# Altium schematic symbol library con-molex-mini-fit.SCHLIB: 168 symbols (part 3 of 4)
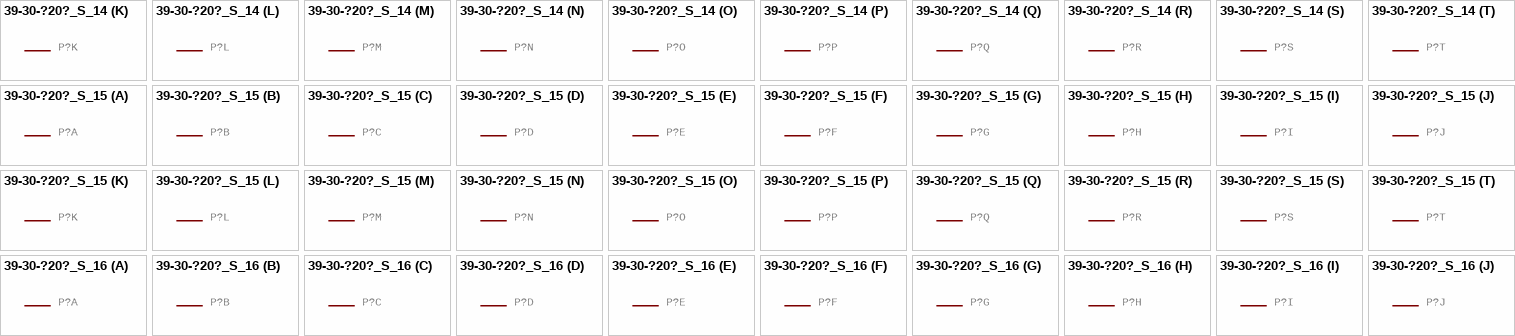
[diagram p67: symbols 39-30-?20?_S_14 to 39-30-?20?_S_16]

## 39-30-?20?_S_14
designator P?, comment HEADER  (value not drawn)
GateName_1: -1; SymbolName_1: P-NV; GateName_2: -2; SymbolName_2: P-N; GateName_3: -3; GateName_4: -4; GateName_5: -5; GateName_6: -6; GateName_7: -7; GateName_8: -8; GateName_9: -9; GateName_10: -10; GateName_11: -11; GateName_12: -12; GateName_13: -13; GateName_14: -14; GateName_15: -15; GateName_16: -16; GateName_17: -17; GateName_18: -18; GateName_19: -19; GateName_20: -20; DeviceSetName: 39-30-?20?_S; SymbolName_3: P-N; SymbolName_4: P-N; SymbolName_5: P-N; SymbolName_6: P-N; SymbolName_7: P-N; SymbolName_8: P-N; SymbolName_9: P-N; SymbolName_10: P-N; SymbolName_11: P-N; SymbolName_12: P-N; SymbolName_13: P-N; SymbolName_14: P-N; SymbolName_15: P-N; SymbolName_16: P-N; SymbolName_17: P-N; SymbolName_18: P-N; SymbolName_19: P-N; SymbolName_20: P-N; LibraryName: con-molex-mini-fit; Package: 39-30-?20?
footprint 39-30-?20?
part A pins: 1 P
part B pins: 2 P
part C pins: 3 P
part D pins: 4 P
part E pins: 5 P
part F pins: 6 P
part G pins: 7 P
part H pins: 8 P
part I pins: 9 P
part J pins: 10 P
part K pins: 11 P
part L pins: 12 P
part M pins: 13 P
part N pins: 14 P
part O pins: 15 P
part P pins: 16 P
part Q pins: 17 P
part R pins: 18 P
part S pins: 19 P
part T pins: 20 P

## 39-30-?20?_S_15
designator P?, comment HEADER  (value not drawn)
GateName_1: -1; SymbolName_1: P-NV; GateName_2: -2; SymbolName_2: P-N; GateName_3: -3; GateName_4: -4; GateName_5: -5; GateName_6: -6; GateName_7: -7; GateName_8: -8; GateName_9: -9; GateName_10: -10; GateName_11: -11; GateName_12: -12; GateName_13: -13; GateName_14: -14; GateName_15: -15; GateName_16: -16; GateName_17: -17; GateName_18: -18; GateName_19: -19; GateName_20: -20; DeviceSetName: 39-30-?20?_S; SymbolName_3: P-N; SymbolName_4: P-N; SymbolName_5: P-N; SymbolName_6: P-N; SymbolName_7: P-N; SymbolName_8: P-N; SymbolName_9: P-N; SymbolName_10: P-N; SymbolName_11: P-N; SymbolName_12: P-N; SymbolName_13: P-N; SymbolName_14: P-N; SymbolName_15: P-N; SymbolName_16: P-N; SymbolName_17: P-N; SymbolName_18: P-N; SymbolName_19: P-N; SymbolName_20: P-N; LibraryName: con-molex-mini-fit; Package: 39-30-?20?
footprint 39-30-?20?
part A pins: 1 P
part B pins: 2 P
part C pins: 3 P
part D pins: 4 P
part E pins: 5 P
part F pins: 6 P
part G pins: 7 P
part H pins: 8 P
part I pins: 9 P
part J pins: 10 P
part K pins: 11 P
part L pins: 12 P
part M pins: 13 P
part N pins: 14 P
part O pins: 15 P
part P pins: 16 P
part Q pins: 17 P
part R pins: 18 P
part S pins: 19 P
part T pins: 20 P

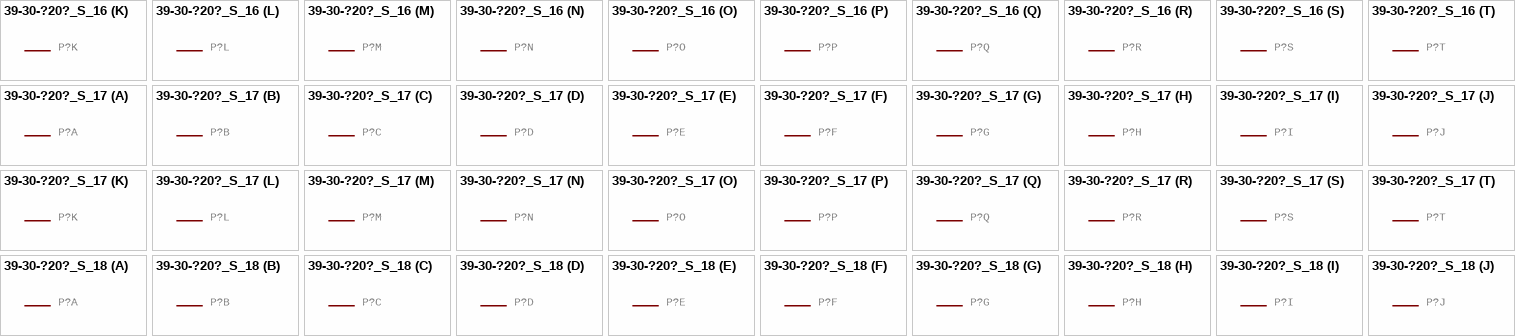
[diagram p37: symbols 39-30-?20?_S_16 to 39-30-?20?_S_18]

## 39-30-?20?_S_16
designator P?, comment HEADER  (value not drawn)
GateName_1: -1; SymbolName_1: P-NV; GateName_2: -2; SymbolName_2: P-N; GateName_3: -3; GateName_4: -4; GateName_5: -5; GateName_6: -6; GateName_7: -7; GateName_8: -8; GateName_9: -9; GateName_10: -10; GateName_11: -11; GateName_12: -12; GateName_13: -13; GateName_14: -14; GateName_15: -15; GateName_16: -16; GateName_17: -17; GateName_18: -18; GateName_19: -19; GateName_20: -20; DeviceSetName: 39-30-?20?_S; SymbolName_3: P-N; SymbolName_4: P-N; SymbolName_5: P-N; SymbolName_6: P-N; SymbolName_7: P-N; SymbolName_8: P-N; SymbolName_9: P-N; SymbolName_10: P-N; SymbolName_11: P-N; SymbolName_12: P-N; SymbolName_13: P-N; SymbolName_14: P-N; SymbolName_15: P-N; SymbolName_16: P-N; SymbolName_17: P-N; SymbolName_18: P-N; SymbolName_19: P-N; SymbolName_20: P-N; LibraryName: con-molex-mini-fit; Package: 39-30-?20?
footprint 39-30-?20?
part A pins: 1 P
part B pins: 2 P
part C pins: 3 P
part D pins: 4 P
part E pins: 5 P
part F pins: 6 P
part G pins: 7 P
part H pins: 8 P
part I pins: 9 P
part J pins: 10 P
part K pins: 11 P
part L pins: 12 P
part M pins: 13 P
part N pins: 14 P
part O pins: 15 P
part P pins: 16 P
part Q pins: 17 P
part R pins: 18 P
part S pins: 19 P
part T pins: 20 P

## 39-30-?20?_S_17
designator P?, comment HEADER  (value not drawn)
GateName_1: -1; SymbolName_1: P-NV; GateName_2: -2; SymbolName_2: P-N; GateName_3: -3; GateName_4: -4; GateName_5: -5; GateName_6: -6; GateName_7: -7; GateName_8: -8; GateName_9: -9; GateName_10: -10; GateName_11: -11; GateName_12: -12; GateName_13: -13; GateName_14: -14; GateName_15: -15; GateName_16: -16; GateName_17: -17; GateName_18: -18; GateName_19: -19; GateName_20: -20; DeviceSetName: 39-30-?20?_S; SymbolName_3: P-N; SymbolName_4: P-N; SymbolName_5: P-N; SymbolName_6: P-N; SymbolName_7: P-N; SymbolName_8: P-N; SymbolName_9: P-N; SymbolName_10: P-N; SymbolName_11: P-N; SymbolName_12: P-N; SymbolName_13: P-N; SymbolName_14: P-N; SymbolName_15: P-N; SymbolName_16: P-N; SymbolName_17: P-N; SymbolName_18: P-N; SymbolName_19: P-N; SymbolName_20: P-N; LibraryName: con-molex-mini-fit; Package: 39-30-?20?
footprint 39-30-?20?
part A pins: 1 P
part B pins: 2 P
part C pins: 3 P
part D pins: 4 P
part E pins: 5 P
part F pins: 6 P
part G pins: 7 P
part H pins: 8 P
part I pins: 9 P
part J pins: 10 P
part K pins: 11 P
part L pins: 12 P
part M pins: 13 P
part N pins: 14 P
part O pins: 15 P
part P pins: 16 P
part Q pins: 17 P
part R pins: 18 P
part S pins: 19 P
part T pins: 20 P

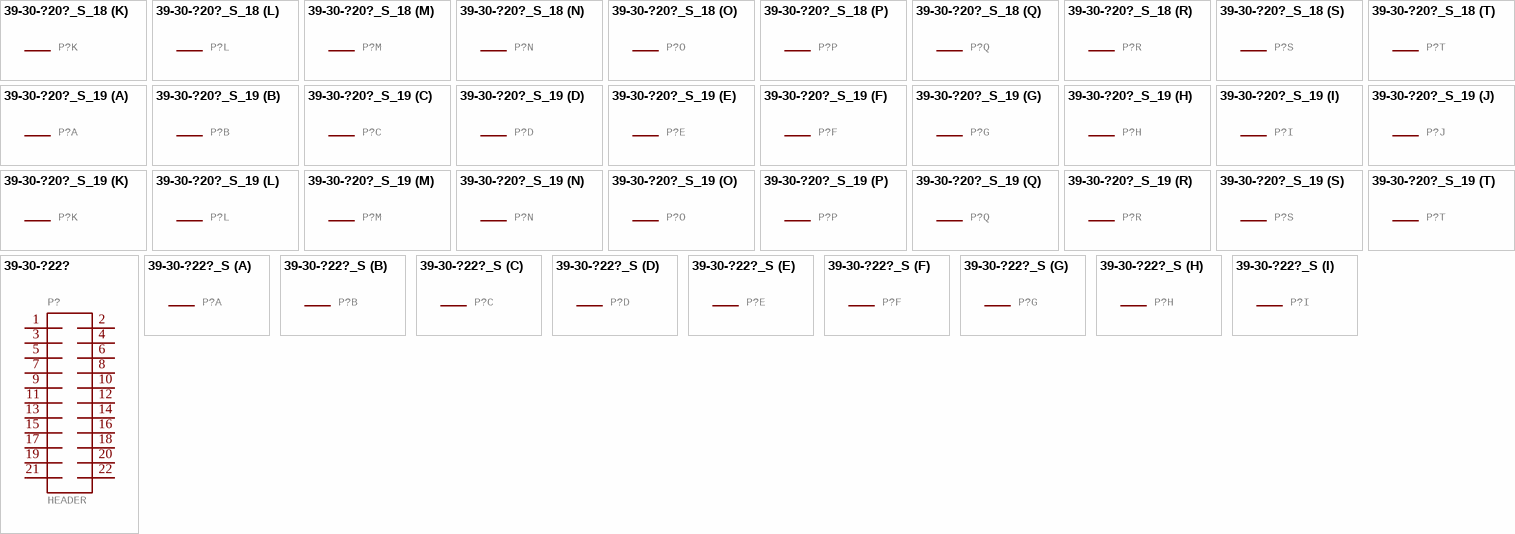
[diagram p38: symbols 39-30-?20?_S_18 to 39-30-?22?_S]

## 39-30-?20?_S_18
designator P?, comment HEADER  (value not drawn)
GateName_1: -1; SymbolName_1: P-NV; GateName_2: -2; SymbolName_2: P-N; GateName_3: -3; GateName_4: -4; GateName_5: -5; GateName_6: -6; GateName_7: -7; GateName_8: -8; GateName_9: -9; GateName_10: -10; GateName_11: -11; GateName_12: -12; GateName_13: -13; GateName_14: -14; GateName_15: -15; GateName_16: -16; GateName_17: -17; GateName_18: -18; GateName_19: -19; GateName_20: -20; DeviceSetName: 39-30-?20?_S; SymbolName_3: P-N; SymbolName_4: P-N; SymbolName_5: P-N; SymbolName_6: P-N; SymbolName_7: P-N; SymbolName_8: P-N; SymbolName_9: P-N; SymbolName_10: P-N; SymbolName_11: P-N; SymbolName_12: P-N; SymbolName_13: P-N; SymbolName_14: P-N; SymbolName_15: P-N; SymbolName_16: P-N; SymbolName_17: P-N; SymbolName_18: P-N; SymbolName_19: P-N; SymbolName_20: P-N; LibraryName: con-molex-mini-fit; Package: 39-30-?20?
footprint 39-30-?20?
part A pins: 1 P
part B pins: 2 P
part C pins: 3 P
part D pins: 4 P
part E pins: 5 P
part F pins: 6 P
part G pins: 7 P
part H pins: 8 P
part I pins: 9 P
part J pins: 10 P
part K pins: 11 P
part L pins: 12 P
part M pins: 13 P
part N pins: 14 P
part O pins: 15 P
part P pins: 16 P
part Q pins: 17 P
part R pins: 18 P
part S pins: 19 P
part T pins: 20 P

## 39-30-?20?_S_19
designator P?, comment HEADER  (value not drawn)
GateName_1: -1; SymbolName_1: P-NV; GateName_2: -2; SymbolName_2: P-N; GateName_3: -3; GateName_4: -4; GateName_5: -5; GateName_6: -6; GateName_7: -7; GateName_8: -8; GateName_9: -9; GateName_10: -10; GateName_11: -11; GateName_12: -12; GateName_13: -13; GateName_14: -14; GateName_15: -15; GateName_16: -16; GateName_17: -17; GateName_18: -18; GateName_19: -19; GateName_20: -20; DeviceSetName: 39-30-?20?_S; SymbolName_3: P-N; SymbolName_4: P-N; SymbolName_5: P-N; SymbolName_6: P-N; SymbolName_7: P-N; SymbolName_8: P-N; SymbolName_9: P-N; SymbolName_10: P-N; SymbolName_11: P-N; SymbolName_12: P-N; SymbolName_13: P-N; SymbolName_14: P-N; SymbolName_15: P-N; SymbolName_16: P-N; SymbolName_17: P-N; SymbolName_18: P-N; SymbolName_19: P-N; SymbolName_20: P-N; LibraryName: con-molex-mini-fit; Package: 39-30-?20?
footprint 39-30-?20?
part A pins: 1 P
part B pins: 2 P
part C pins: 3 P
part D pins: 4 P
part E pins: 5 P
part F pins: 6 P
part G pins: 7 P
part H pins: 8 P
part I pins: 9 P
part J pins: 10 P
part K pins: 11 P
part L pins: 12 P
part M pins: 13 P
part N pins: 14 P
part O pins: 15 P
part P pins: 16 P
part Q pins: 17 P
part R pins: 18 P
part S pins: 19 P
part T pins: 20 P

## 39-30-?22?
designator P?, comment HEADER
GateName_1: G$1; SymbolName_1: MA11-2; DeviceSetName: 39-30-?22?; LibraryName: con-molex-mini-fit; Package: 39-30-?22?
footprint 39-30-?22?
pins: 1, 2, 3, 4, 5, 6, 7, 8, 9, 10, 11, 12, 13, 14, 15, 16, 17, 18, 19, 20, 21, 22

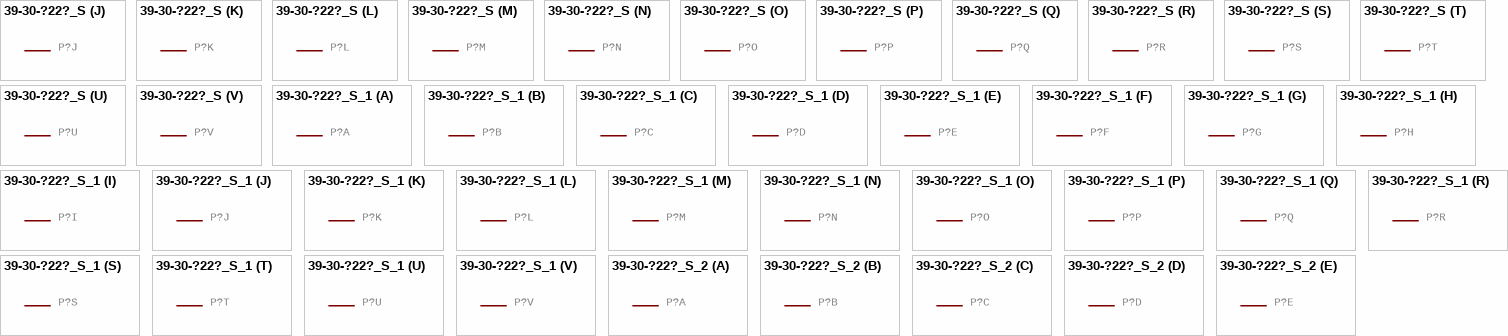
[diagram p39: symbols 39-30-?22?_S to 39-30-?22?_S_2]

## 39-30-?22?_S
designator P?, comment HEADER  (value not drawn)
GateName_1: -1; SymbolName_1: P-NV; GateName_2: -2; SymbolName_2: P-N; GateName_3: -3; GateName_4: -4; GateName_5: -5; GateName_6: -6; GateName_7: -7; GateName_8: -8; GateName_9: -9; GateName_10: -10; GateName_11: -11; GateName_12: -12; GateName_13: -13; GateName_14: -14; GateName_15: -15; GateName_16: -16; GateName_17: -17; GateName_18: -18; GateName_19: -19; GateName_20: -20; GateName_21: -21; GateName_22: -22; DeviceSetName: 39-30-?22?_S; SymbolName_3: P-N; SymbolName_4: P-N; SymbolName_5: P-N; SymbolName_6: P-N; SymbolName_7: P-N; SymbolName_8: P-N; SymbolName_9: P-N; SymbolName_10: P-N; SymbolName_11: P-N; SymbolName_12: P-N; SymbolName_13: P-N; SymbolName_14: P-N; SymbolName_15: P-N; SymbolName_16: P-N; SymbolName_17: P-N; SymbolName_18: P-N; SymbolName_19: P-N; SymbolName_20: P-N; SymbolName_21: P-N; SymbolName_22: P-N; LibraryName: con-molex-mini-fit; Package: 39-30-?22?
footprint 39-30-?22?
part A pins: 1 P
part B pins: 2 P
part C pins: 3 P
part D pins: 4 P
part E pins: 5 P
part F pins: 6 P
part G pins: 7 P
part H pins: 8 P
part I pins: 9 P
part J pins: 10 P
part K pins: 11 P
part L pins: 12 P
part M pins: 13 P
part N pins: 14 P
part O pins: 15 P
part P pins: 16 P
part Q pins: 17 P
part R pins: 18 P
part S pins: 19 P
part T pins: 20 P
part U pins: 21 P
part V pins: 22 P

## 39-30-?22?_S_1
designator P?, comment HEADER  (value not drawn)
GateName_1: -1; SymbolName_1: P-NV; GateName_2: -2; SymbolName_2: P-N; GateName_3: -3; GateName_4: -4; GateName_5: -5; GateName_6: -6; GateName_7: -7; GateName_8: -8; GateName_9: -9; GateName_10: -10; GateName_11: -11; GateName_12: -12; GateName_13: -13; GateName_14: -14; GateName_15: -15; GateName_16: -16; GateName_17: -17; GateName_18: -18; GateName_19: -19; GateName_20: -20; GateName_21: -21; GateName_22: -22; DeviceSetName: 39-30-?22?_S; SymbolName_3: P-N; SymbolName_4: P-N; SymbolName_5: P-N; SymbolName_6: P-N; SymbolName_7: P-N; SymbolName_8: P-N; SymbolName_9: P-N; SymbolName_10: P-N; SymbolName_11: P-N; SymbolName_12: P-N; SymbolName_13: P-N; SymbolName_14: P-N; SymbolName_15: P-N; SymbolName_16: P-N; SymbolName_17: P-N; SymbolName_18: P-N; SymbolName_19: P-N; SymbolName_20: P-N; SymbolName_21: P-N; SymbolName_22: P-N; LibraryName: con-molex-mini-fit; Package: 39-30-?22?
footprint 39-30-?22?
part A pins: 1 P
part B pins: 2 P
part C pins: 3 P
part D pins: 4 P
part E pins: 5 P
part F pins: 6 P
part G pins: 7 P
part H pins: 8 P
part I pins: 9 P
part J pins: 10 P
part K pins: 11 P
part L pins: 12 P
part M pins: 13 P
part N pins: 14 P
part O pins: 15 P
part P pins: 16 P
part Q pins: 17 P
part R pins: 18 P
part S pins: 19 P
part T pins: 20 P
part U pins: 21 P
part V pins: 22 P

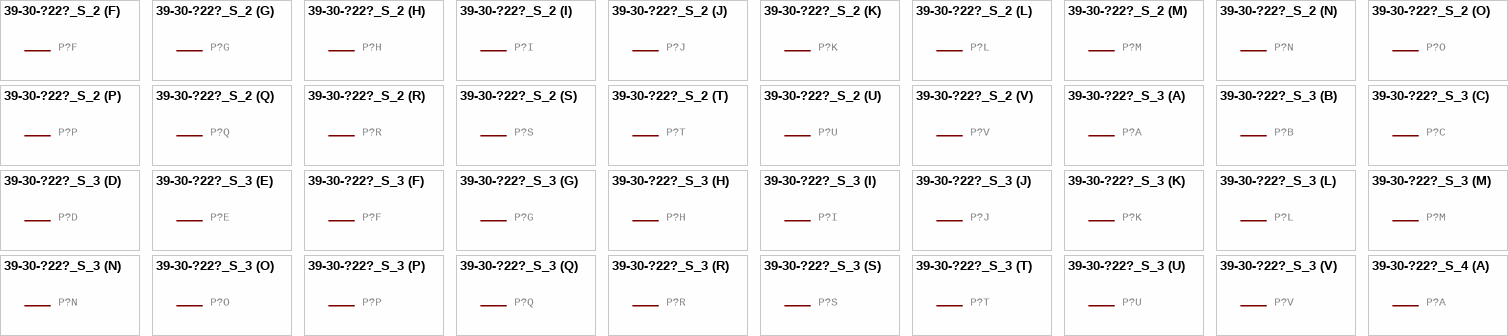
[diagram p40: symbols 39-30-?22?_S_2 to 39-30-?22?_S_4]

## 39-30-?22?_S_2
designator P?, comment HEADER  (value not drawn)
GateName_1: -1; SymbolName_1: P-NV; GateName_2: -2; SymbolName_2: P-N; GateName_3: -3; GateName_4: -4; GateName_5: -5; GateName_6: -6; GateName_7: -7; GateName_8: -8; GateName_9: -9; GateName_10: -10; GateName_11: -11; GateName_12: -12; GateName_13: -13; GateName_14: -14; GateName_15: -15; GateName_16: -16; GateName_17: -17; GateName_18: -18; GateName_19: -19; GateName_20: -20; GateName_21: -21; GateName_22: -22; DeviceSetName: 39-30-?22?_S; SymbolName_3: P-N; SymbolName_4: P-N; SymbolName_5: P-N; SymbolName_6: P-N; SymbolName_7: P-N; SymbolName_8: P-N; SymbolName_9: P-N; SymbolName_10: P-N; SymbolName_11: P-N; SymbolName_12: P-N; SymbolName_13: P-N; SymbolName_14: P-N; SymbolName_15: P-N; SymbolName_16: P-N; SymbolName_17: P-N; SymbolName_18: P-N; SymbolName_19: P-N; SymbolName_20: P-N; SymbolName_21: P-N; SymbolName_22: P-N; LibraryName: con-molex-mini-fit; Package: 39-30-?22?
footprint 39-30-?22?
part A pins: 1 P
part B pins: 2 P
part C pins: 3 P
part D pins: 4 P
part E pins: 5 P
part F pins: 6 P
part G pins: 7 P
part H pins: 8 P
part I pins: 9 P
part J pins: 10 P
part K pins: 11 P
part L pins: 12 P
part M pins: 13 P
part N pins: 14 P
part O pins: 15 P
part P pins: 16 P
part Q pins: 17 P
part R pins: 18 P
part S pins: 19 P
part T pins: 20 P
part U pins: 21 P
part V pins: 22 P

## 39-30-?22?_S_3
designator P?, comment HEADER  (value not drawn)
GateName_1: -1; SymbolName_1: P-NV; GateName_2: -2; SymbolName_2: P-N; GateName_3: -3; GateName_4: -4; GateName_5: -5; GateName_6: -6; GateName_7: -7; GateName_8: -8; GateName_9: -9; GateName_10: -10; GateName_11: -11; GateName_12: -12; GateName_13: -13; GateName_14: -14; GateName_15: -15; GateName_16: -16; GateName_17: -17; GateName_18: -18; GateName_19: -19; GateName_20: -20; GateName_21: -21; GateName_22: -22; DeviceSetName: 39-30-?22?_S; SymbolName_3: P-N; SymbolName_4: P-N; SymbolName_5: P-N; SymbolName_6: P-N; SymbolName_7: P-N; SymbolName_8: P-N; SymbolName_9: P-N; SymbolName_10: P-N; SymbolName_11: P-N; SymbolName_12: P-N; SymbolName_13: P-N; SymbolName_14: P-N; SymbolName_15: P-N; SymbolName_16: P-N; SymbolName_17: P-N; SymbolName_18: P-N; SymbolName_19: P-N; SymbolName_20: P-N; SymbolName_21: P-N; SymbolName_22: P-N; LibraryName: con-molex-mini-fit; Package: 39-30-?22?
footprint 39-30-?22?
part A pins: 1 P
part B pins: 2 P
part C pins: 3 P
part D pins: 4 P
part E pins: 5 P
part F pins: 6 P
part G pins: 7 P
part H pins: 8 P
part I pins: 9 P
part J pins: 10 P
part K pins: 11 P
part L pins: 12 P
part M pins: 13 P
part N pins: 14 P
part O pins: 15 P
part P pins: 16 P
part Q pins: 17 P
part R pins: 18 P
part S pins: 19 P
part T pins: 20 P
part U pins: 21 P
part V pins: 22 P

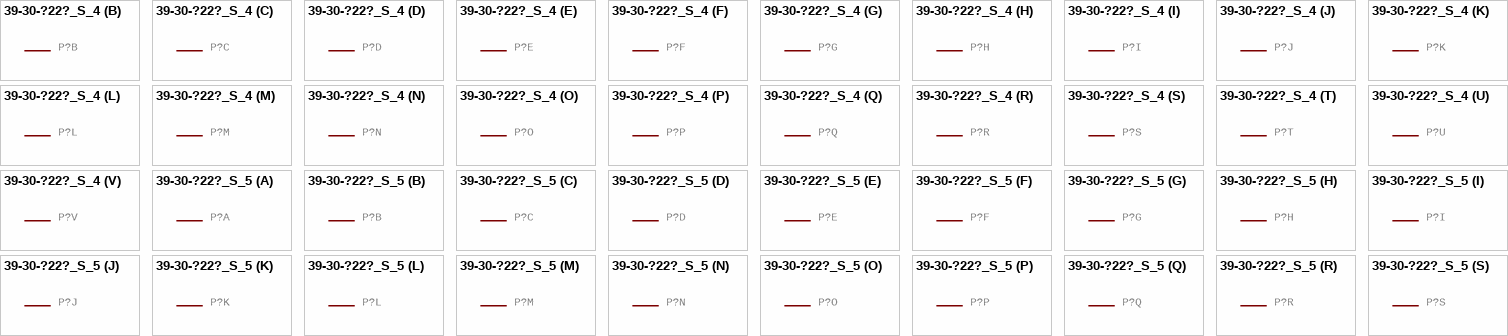
[diagram p41: symbols 39-30-?22?_S_4 to 39-30-?22?_S_5]

## 39-30-?22?_S_4
designator P?, comment HEADER  (value not drawn)
GateName_1: -1; SymbolName_1: P-NV; GateName_2: -2; SymbolName_2: P-N; GateName_3: -3; GateName_4: -4; GateName_5: -5; GateName_6: -6; GateName_7: -7; GateName_8: -8; GateName_9: -9; GateName_10: -10; GateName_11: -11; GateName_12: -12; GateName_13: -13; GateName_14: -14; GateName_15: -15; GateName_16: -16; GateName_17: -17; GateName_18: -18; GateName_19: -19; GateName_20: -20; GateName_21: -21; GateName_22: -22; DeviceSetName: 39-30-?22?_S; SymbolName_3: P-N; SymbolName_4: P-N; SymbolName_5: P-N; SymbolName_6: P-N; SymbolName_7: P-N; SymbolName_8: P-N; SymbolName_9: P-N; SymbolName_10: P-N; SymbolName_11: P-N; SymbolName_12: P-N; SymbolName_13: P-N; SymbolName_14: P-N; SymbolName_15: P-N; SymbolName_16: P-N; SymbolName_17: P-N; SymbolName_18: P-N; SymbolName_19: P-N; SymbolName_20: P-N; SymbolName_21: P-N; SymbolName_22: P-N; LibraryName: con-molex-mini-fit; Package: 39-30-?22?
footprint 39-30-?22?
part A pins: 1 P
part B pins: 2 P
part C pins: 3 P
part D pins: 4 P
part E pins: 5 P
part F pins: 6 P
part G pins: 7 P
part H pins: 8 P
part I pins: 9 P
part J pins: 10 P
part K pins: 11 P
part L pins: 12 P
part M pins: 13 P
part N pins: 14 P
part O pins: 15 P
part P pins: 16 P
part Q pins: 17 P
part R pins: 18 P
part S pins: 19 P
part T pins: 20 P
part U pins: 21 P
part V pins: 22 P

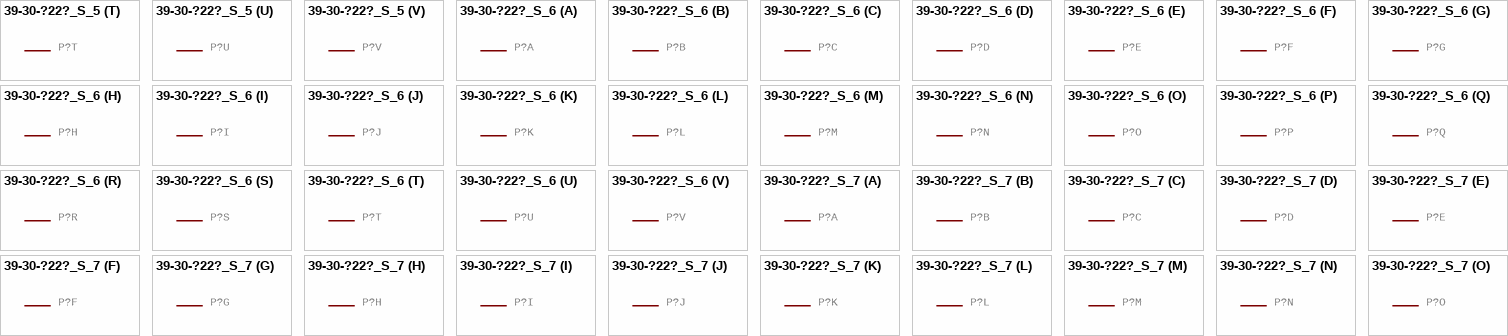
[diagram p42: symbols 39-30-?22?_S_5 to 39-30-?22?_S_7]

## 39-30-?22?_S_5
designator P?, comment HEADER  (value not drawn)
GateName_1: -1; SymbolName_1: P-NV; GateName_2: -2; SymbolName_2: P-N; GateName_3: -3; GateName_4: -4; GateName_5: -5; GateName_6: -6; GateName_7: -7; GateName_8: -8; GateName_9: -9; GateName_10: -10; GateName_11: -11; GateName_12: -12; GateName_13: -13; GateName_14: -14; GateName_15: -15; GateName_16: -16; GateName_17: -17; GateName_18: -18; GateName_19: -19; GateName_20: -20; GateName_21: -21; GateName_22: -22; DeviceSetName: 39-30-?22?_S; SymbolName_3: P-N; SymbolName_4: P-N; SymbolName_5: P-N; SymbolName_6: P-N; SymbolName_7: P-N; SymbolName_8: P-N; SymbolName_9: P-N; SymbolName_10: P-N; SymbolName_11: P-N; SymbolName_12: P-N; SymbolName_13: P-N; SymbolName_14: P-N; SymbolName_15: P-N; SymbolName_16: P-N; SymbolName_17: P-N; SymbolName_18: P-N; SymbolName_19: P-N; SymbolName_20: P-N; SymbolName_21: P-N; SymbolName_22: P-N; LibraryName: con-molex-mini-fit; Package: 39-30-?22?
footprint 39-30-?22?
part A pins: 1 P
part B pins: 2 P
part C pins: 3 P
part D pins: 4 P
part E pins: 5 P
part F pins: 6 P
part G pins: 7 P
part H pins: 8 P
part I pins: 9 P
part J pins: 10 P
part K pins: 11 P
part L pins: 12 P
part M pins: 13 P
part N pins: 14 P
part O pins: 15 P
part P pins: 16 P
part Q pins: 17 P
part R pins: 18 P
part S pins: 19 P
part T pins: 20 P
part U pins: 21 P
part V pins: 22 P

## 39-30-?22?_S_6
designator P?, comment HEADER  (value not drawn)
GateName_1: -1; SymbolName_1: P-NV; GateName_2: -2; SymbolName_2: P-N; GateName_3: -3; GateName_4: -4; GateName_5: -5; GateName_6: -6; GateName_7: -7; GateName_8: -8; GateName_9: -9; GateName_10: -10; GateName_11: -11; GateName_12: -12; GateName_13: -13; GateName_14: -14; GateName_15: -15; GateName_16: -16; GateName_17: -17; GateName_18: -18; GateName_19: -19; GateName_20: -20; GateName_21: -21; GateName_22: -22; DeviceSetName: 39-30-?22?_S; SymbolName_3: P-N; SymbolName_4: P-N; SymbolName_5: P-N; SymbolName_6: P-N; SymbolName_7: P-N; SymbolName_8: P-N; SymbolName_9: P-N; SymbolName_10: P-N; SymbolName_11: P-N; SymbolName_12: P-N; SymbolName_13: P-N; SymbolName_14: P-N; SymbolName_15: P-N; SymbolName_16: P-N; SymbolName_17: P-N; SymbolName_18: P-N; SymbolName_19: P-N; SymbolName_20: P-N; SymbolName_21: P-N; SymbolName_22: P-N; LibraryName: con-molex-mini-fit; Package: 39-30-?22?
footprint 39-30-?22?
part A pins: 1 P
part B pins: 2 P
part C pins: 3 P
part D pins: 4 P
part E pins: 5 P
part F pins: 6 P
part G pins: 7 P
part H pins: 8 P
part I pins: 9 P
part J pins: 10 P
part K pins: 11 P
part L pins: 12 P
part M pins: 13 P
part N pins: 14 P
part O pins: 15 P
part P pins: 16 P
part Q pins: 17 P
part R pins: 18 P
part S pins: 19 P
part T pins: 20 P
part U pins: 21 P
part V pins: 22 P

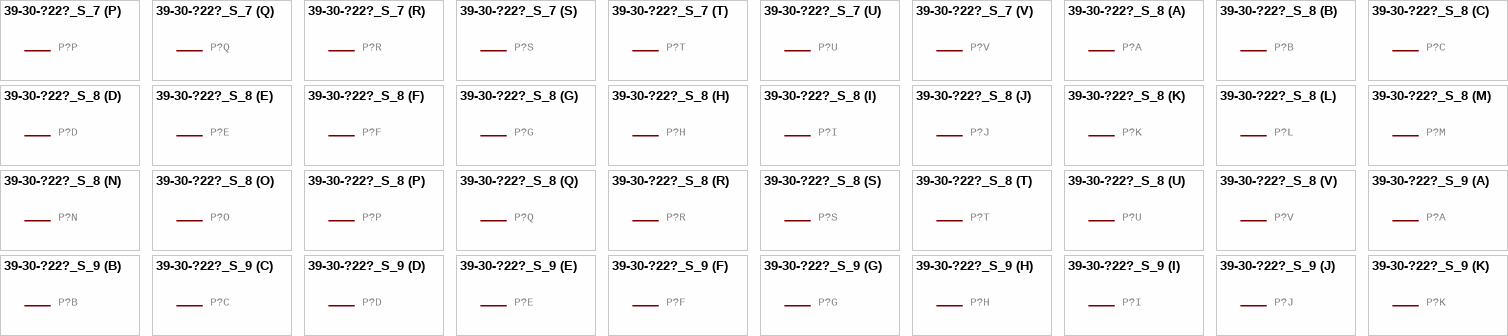
[diagram p43: symbols 39-30-?22?_S_7 to 39-30-?22?_S_9]

## 39-30-?22?_S_7
designator P?, comment HEADER  (value not drawn)
GateName_1: -1; SymbolName_1: P-NV; GateName_2: -2; SymbolName_2: P-N; GateName_3: -3; GateName_4: -4; GateName_5: -5; GateName_6: -6; GateName_7: -7; GateName_8: -8; GateName_9: -9; GateName_10: -10; GateName_11: -11; GateName_12: -12; GateName_13: -13; GateName_14: -14; GateName_15: -15; GateName_16: -16; GateName_17: -17; GateName_18: -18; GateName_19: -19; GateName_20: -20; GateName_21: -21; GateName_22: -22; DeviceSetName: 39-30-?22?_S; SymbolName_3: P-N; SymbolName_4: P-N; SymbolName_5: P-N; SymbolName_6: P-N; SymbolName_7: P-N; SymbolName_8: P-N; SymbolName_9: P-N; SymbolName_10: P-N; SymbolName_11: P-N; SymbolName_12: P-N; SymbolName_13: P-N; SymbolName_14: P-N; SymbolName_15: P-N; SymbolName_16: P-N; SymbolName_17: P-N; SymbolName_18: P-N; SymbolName_19: P-N; SymbolName_20: P-N; SymbolName_21: P-N; SymbolName_22: P-N; LibraryName: con-molex-mini-fit; Package: 39-30-?22?
footprint 39-30-?22?
part A pins: 1 P
part B pins: 2 P
part C pins: 3 P
part D pins: 4 P
part E pins: 5 P
part F pins: 6 P
part G pins: 7 P
part H pins: 8 P
part I pins: 9 P
part J pins: 10 P
part K pins: 11 P
part L pins: 12 P
part M pins: 13 P
part N pins: 14 P
part O pins: 15 P
part P pins: 16 P
part Q pins: 17 P
part R pins: 18 P
part S pins: 19 P
part T pins: 20 P
part U pins: 21 P
part V pins: 22 P

## 39-30-?22?_S_8
designator P?, comment HEADER  (value not drawn)
GateName_1: -1; SymbolName_1: P-NV; GateName_2: -2; SymbolName_2: P-N; GateName_3: -3; GateName_4: -4; GateName_5: -5; GateName_6: -6; GateName_7: -7; GateName_8: -8; GateName_9: -9; GateName_10: -10; GateName_11: -11; GateName_12: -12; GateName_13: -13; GateName_14: -14; GateName_15: -15; GateName_16: -16; GateName_17: -17; GateName_18: -18; GateName_19: -19; GateName_20: -20; GateName_21: -21; GateName_22: -22; DeviceSetName: 39-30-?22?_S; SymbolName_3: P-N; SymbolName_4: P-N; SymbolName_5: P-N; SymbolName_6: P-N; SymbolName_7: P-N; SymbolName_8: P-N; SymbolName_9: P-N; SymbolName_10: P-N; SymbolName_11: P-N; SymbolName_12: P-N; SymbolName_13: P-N; SymbolName_14: P-N; SymbolName_15: P-N; SymbolName_16: P-N; SymbolName_17: P-N; SymbolName_18: P-N; SymbolName_19: P-N; SymbolName_20: P-N; SymbolName_21: P-N; SymbolName_22: P-N; LibraryName: con-molex-mini-fit; Package: 39-30-?22?
footprint 39-30-?22?
part A pins: 1 P
part B pins: 2 P
part C pins: 3 P
part D pins: 4 P
part E pins: 5 P
part F pins: 6 P
part G pins: 7 P
part H pins: 8 P
part I pins: 9 P
part J pins: 10 P
part K pins: 11 P
part L pins: 12 P
part M pins: 13 P
part N pins: 14 P
part O pins: 15 P
part P pins: 16 P
part Q pins: 17 P
part R pins: 18 P
part S pins: 19 P
part T pins: 20 P
part U pins: 21 P
part V pins: 22 P

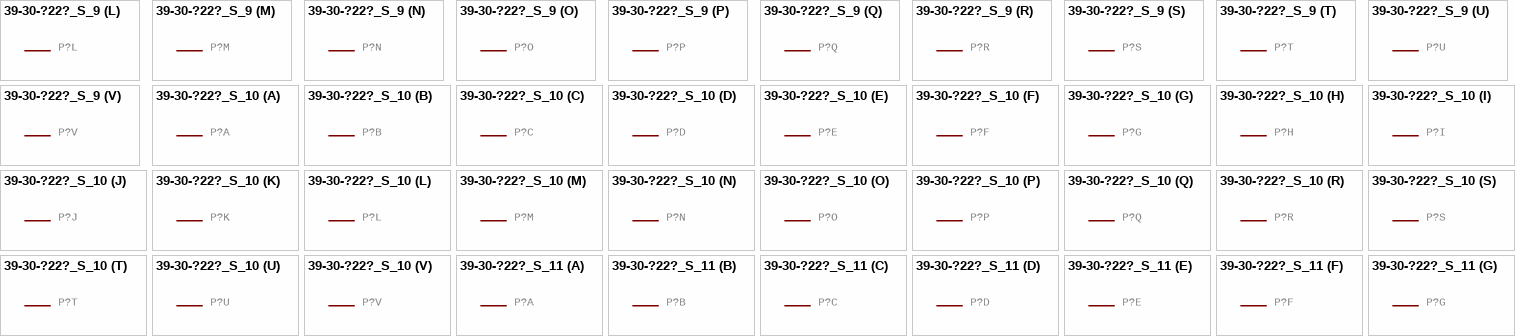
[diagram p44: symbols 39-30-?22?_S_9 to 39-30-?22?_S_11]

## 39-30-?22?_S_9
designator P?, comment HEADER  (value not drawn)
GateName_1: -1; SymbolName_1: P-NV; GateName_2: -2; SymbolName_2: P-N; GateName_3: -3; GateName_4: -4; GateName_5: -5; GateName_6: -6; GateName_7: -7; GateName_8: -8; GateName_9: -9; GateName_10: -10; GateName_11: -11; GateName_12: -12; GateName_13: -13; GateName_14: -14; GateName_15: -15; GateName_16: -16; GateName_17: -17; GateName_18: -18; GateName_19: -19; GateName_20: -20; GateName_21: -21; GateName_22: -22; DeviceSetName: 39-30-?22?_S; SymbolName_3: P-N; SymbolName_4: P-N; SymbolName_5: P-N; SymbolName_6: P-N; SymbolName_7: P-N; SymbolName_8: P-N; SymbolName_9: P-N; SymbolName_10: P-N; SymbolName_11: P-N; SymbolName_12: P-N; SymbolName_13: P-N; SymbolName_14: P-N; SymbolName_15: P-N; SymbolName_16: P-N; SymbolName_17: P-N; SymbolName_18: P-N; SymbolName_19: P-N; SymbolName_20: P-N; SymbolName_21: P-N; SymbolName_22: P-N; LibraryName: con-molex-mini-fit; Package: 39-30-?22?
footprint 39-30-?22?
part A pins: 1 P
part B pins: 2 P
part C pins: 3 P
part D pins: 4 P
part E pins: 5 P
part F pins: 6 P
part G pins: 7 P
part H pins: 8 P
part I pins: 9 P
part J pins: 10 P
part K pins: 11 P
part L pins: 12 P
part M pins: 13 P
part N pins: 14 P
part O pins: 15 P
part P pins: 16 P
part Q pins: 17 P
part R pins: 18 P
part S pins: 19 P
part T pins: 20 P
part U pins: 21 P
part V pins: 22 P

## 39-30-?22?_S_10
designator P?, comment HEADER  (value not drawn)
GateName_1: -1; SymbolName_1: P-NV; GateName_2: -2; SymbolName_2: P-N; GateName_3: -3; GateName_4: -4; GateName_5: -5; GateName_6: -6; GateName_7: -7; GateName_8: -8; GateName_9: -9; GateName_10: -10; GateName_11: -11; GateName_12: -12; GateName_13: -13; GateName_14: -14; GateName_15: -15; GateName_16: -16; GateName_17: -17; GateName_18: -18; GateName_19: -19; GateName_20: -20; GateName_21: -21; GateName_22: -22; DeviceSetName: 39-30-?22?_S; SymbolName_3: P-N; SymbolName_4: P-N; SymbolName_5: P-N; SymbolName_6: P-N; SymbolName_7: P-N; SymbolName_8: P-N; SymbolName_9: P-N; SymbolName_10: P-N; SymbolName_11: P-N; SymbolName_12: P-N; SymbolName_13: P-N; SymbolName_14: P-N; SymbolName_15: P-N; SymbolName_16: P-N; SymbolName_17: P-N; SymbolName_18: P-N; SymbolName_19: P-N; SymbolName_20: P-N; SymbolName_21: P-N; SymbolName_22: P-N; LibraryName: con-molex-mini-fit; Package: 39-30-?22?
footprint 39-30-?22?
part A pins: 1 P
part B pins: 2 P
part C pins: 3 P
part D pins: 4 P
part E pins: 5 P
part F pins: 6 P
part G pins: 7 P
part H pins: 8 P
part I pins: 9 P
part J pins: 10 P
part K pins: 11 P
part L pins: 12 P
part M pins: 13 P
part N pins: 14 P
part O pins: 15 P
part P pins: 16 P
part Q pins: 17 P
part R pins: 18 P
part S pins: 19 P
part T pins: 20 P
part U pins: 21 P
part V pins: 22 P

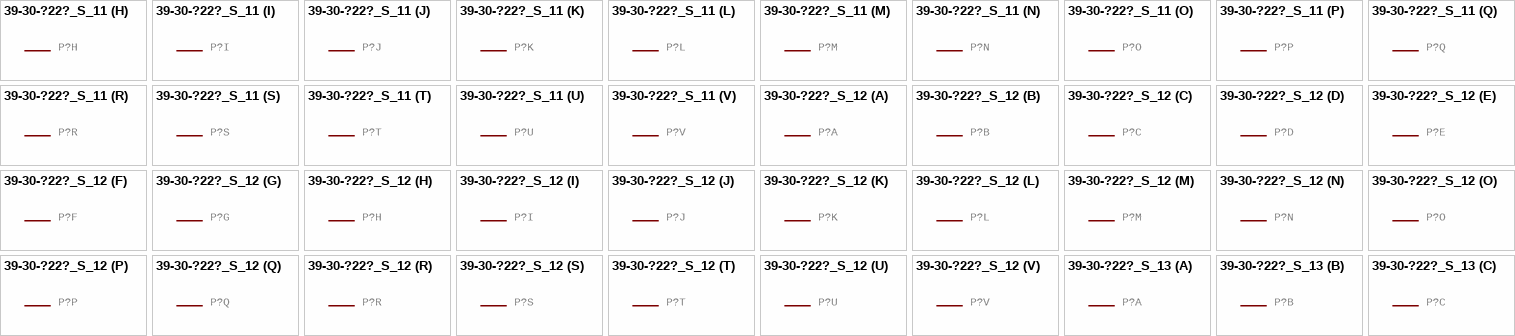
[diagram p45: symbols 39-30-?22?_S_11 to 39-30-?22?_S_13]

## 39-30-?22?_S_11
designator P?, comment HEADER  (value not drawn)
GateName_1: -1; SymbolName_1: P-NV; GateName_2: -2; SymbolName_2: P-N; GateName_3: -3; GateName_4: -4; GateName_5: -5; GateName_6: -6; GateName_7: -7; GateName_8: -8; GateName_9: -9; GateName_10: -10; GateName_11: -11; GateName_12: -12; GateName_13: -13; GateName_14: -14; GateName_15: -15; GateName_16: -16; GateName_17: -17; GateName_18: -18; GateName_19: -19; GateName_20: -20; GateName_21: -21; GateName_22: -22; DeviceSetName: 39-30-?22?_S; SymbolName_3: P-N; SymbolName_4: P-N; SymbolName_5: P-N; SymbolName_6: P-N; SymbolName_7: P-N; SymbolName_8: P-N; SymbolName_9: P-N; SymbolName_10: P-N; SymbolName_11: P-N; SymbolName_12: P-N; SymbolName_13: P-N; SymbolName_14: P-N; SymbolName_15: P-N; SymbolName_16: P-N; SymbolName_17: P-N; SymbolName_18: P-N; SymbolName_19: P-N; SymbolName_20: P-N; SymbolName_21: P-N; SymbolName_22: P-N; LibraryName: con-molex-mini-fit; Package: 39-30-?22?
footprint 39-30-?22?
part A pins: 1 P
part B pins: 2 P
part C pins: 3 P
part D pins: 4 P
part E pins: 5 P
part F pins: 6 P
part G pins: 7 P
part H pins: 8 P
part I pins: 9 P
part J pins: 10 P
part K pins: 11 P
part L pins: 12 P
part M pins: 13 P
part N pins: 14 P
part O pins: 15 P
part P pins: 16 P
part Q pins: 17 P
part R pins: 18 P
part S pins: 19 P
part T pins: 20 P
part U pins: 21 P
part V pins: 22 P

## 39-30-?22?_S_12
designator P?, comment HEADER  (value not drawn)
GateName_1: -1; SymbolName_1: P-NV; GateName_2: -2; SymbolName_2: P-N; GateName_3: -3; GateName_4: -4; GateName_5: -5; GateName_6: -6; GateName_7: -7; GateName_8: -8; GateName_9: -9; GateName_10: -10; GateName_11: -11; GateName_12: -12; GateName_13: -13; GateName_14: -14; GateName_15: -15; GateName_16: -16; GateName_17: -17; GateName_18: -18; GateName_19: -19; GateName_20: -20; GateName_21: -21; GateName_22: -22; DeviceSetName: 39-30-?22?_S; SymbolName_3: P-N; SymbolName_4: P-N; SymbolName_5: P-N; SymbolName_6: P-N; SymbolName_7: P-N; SymbolName_8: P-N; SymbolName_9: P-N; SymbolName_10: P-N; SymbolName_11: P-N; SymbolName_12: P-N; SymbolName_13: P-N; SymbolName_14: P-N; SymbolName_15: P-N; SymbolName_16: P-N; SymbolName_17: P-N; SymbolName_18: P-N; SymbolName_19: P-N; SymbolName_20: P-N; SymbolName_21: P-N; SymbolName_22: P-N; LibraryName: con-molex-mini-fit; Package: 39-30-?22?
footprint 39-30-?22?
part A pins: 1 P
part B pins: 2 P
part C pins: 3 P
part D pins: 4 P
part E pins: 5 P
part F pins: 6 P
part G pins: 7 P
part H pins: 8 P
part I pins: 9 P
part J pins: 10 P
part K pins: 11 P
part L pins: 12 P
part M pins: 13 P
part N pins: 14 P
part O pins: 15 P
part P pins: 16 P
part Q pins: 17 P
part R pins: 18 P
part S pins: 19 P
part T pins: 20 P
part U pins: 21 P
part V pins: 22 P

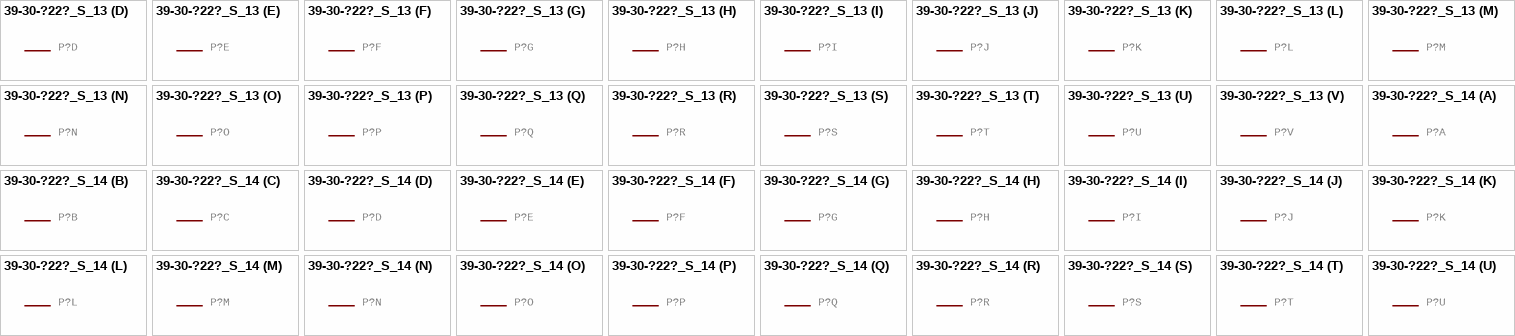
[diagram p46: symbols 39-30-?22?_S_13 to 39-30-?22?_S_14]

## 39-30-?22?_S_13
designator P?, comment HEADER  (value not drawn)
GateName_1: -1; SymbolName_1: P-NV; GateName_2: -2; SymbolName_2: P-N; GateName_3: -3; GateName_4: -4; GateName_5: -5; GateName_6: -6; GateName_7: -7; GateName_8: -8; GateName_9: -9; GateName_10: -10; GateName_11: -11; GateName_12: -12; GateName_13: -13; GateName_14: -14; GateName_15: -15; GateName_16: -16; GateName_17: -17; GateName_18: -18; GateName_19: -19; GateName_20: -20; GateName_21: -21; GateName_22: -22; DeviceSetName: 39-30-?22?_S; SymbolName_3: P-N; SymbolName_4: P-N; SymbolName_5: P-N; SymbolName_6: P-N; SymbolName_7: P-N; SymbolName_8: P-N; SymbolName_9: P-N; SymbolName_10: P-N; SymbolName_11: P-N; SymbolName_12: P-N; SymbolName_13: P-N; SymbolName_14: P-N; SymbolName_15: P-N; SymbolName_16: P-N; SymbolName_17: P-N; SymbolName_18: P-N; SymbolName_19: P-N; SymbolName_20: P-N; SymbolName_21: P-N; SymbolName_22: P-N; LibraryName: con-molex-mini-fit; Package: 39-30-?22?
footprint 39-30-?22?
part A pins: 1 P
part B pins: 2 P
part C pins: 3 P
part D pins: 4 P
part E pins: 5 P
part F pins: 6 P
part G pins: 7 P
part H pins: 8 P
part I pins: 9 P
part J pins: 10 P
part K pins: 11 P
part L pins: 12 P
part M pins: 13 P
part N pins: 14 P
part O pins: 15 P
part P pins: 16 P
part Q pins: 17 P
part R pins: 18 P
part S pins: 19 P
part T pins: 20 P
part U pins: 21 P
part V pins: 22 P

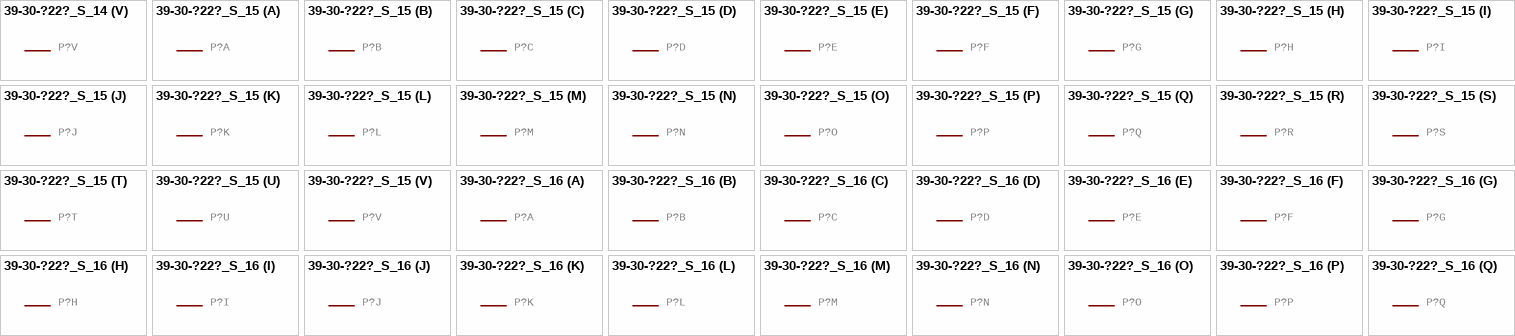
[diagram p47: symbols 39-30-?22?_S_14 to 39-30-?22?_S_16]

## 39-30-?22?_S_14
designator P?, comment HEADER  (value not drawn)
GateName_1: -1; SymbolName_1: P-NV; GateName_2: -2; SymbolName_2: P-N; GateName_3: -3; GateName_4: -4; GateName_5: -5; GateName_6: -6; GateName_7: -7; GateName_8: -8; GateName_9: -9; GateName_10: -10; GateName_11: -11; GateName_12: -12; GateName_13: -13; GateName_14: -14; GateName_15: -15; GateName_16: -16; GateName_17: -17; GateName_18: -18; GateName_19: -19; GateName_20: -20; GateName_21: -21; GateName_22: -22; DeviceSetName: 39-30-?22?_S; SymbolName_3: P-N; SymbolName_4: P-N; SymbolName_5: P-N; SymbolName_6: P-N; SymbolName_7: P-N; SymbolName_8: P-N; SymbolName_9: P-N; SymbolName_10: P-N; SymbolName_11: P-N; SymbolName_12: P-N; SymbolName_13: P-N; SymbolName_14: P-N; SymbolName_15: P-N; SymbolName_16: P-N; SymbolName_17: P-N; SymbolName_18: P-N; SymbolName_19: P-N; SymbolName_20: P-N; SymbolName_21: P-N; SymbolName_22: P-N; LibraryName: con-molex-mini-fit; Package: 39-30-?22?
footprint 39-30-?22?
part A pins: 1 P
part B pins: 2 P
part C pins: 3 P
part D pins: 4 P
part E pins: 5 P
part F pins: 6 P
part G pins: 7 P
part H pins: 8 P
part I pins: 9 P
part J pins: 10 P
part K pins: 11 P
part L pins: 12 P
part M pins: 13 P
part N pins: 14 P
part O pins: 15 P
part P pins: 16 P
part Q pins: 17 P
part R pins: 18 P
part S pins: 19 P
part T pins: 20 P
part U pins: 21 P
part V pins: 22 P

## 39-30-?22?_S_15
designator P?, comment HEADER  (value not drawn)
GateName_1: -1; SymbolName_1: P-NV; GateName_2: -2; SymbolName_2: P-N; GateName_3: -3; GateName_4: -4; GateName_5: -5; GateName_6: -6; GateName_7: -7; GateName_8: -8; GateName_9: -9; GateName_10: -10; GateName_11: -11; GateName_12: -12; GateName_13: -13; GateName_14: -14; GateName_15: -15; GateName_16: -16; GateName_17: -17; GateName_18: -18; GateName_19: -19; GateName_20: -20; GateName_21: -21; GateName_22: -22; DeviceSetName: 39-30-?22?_S; SymbolName_3: P-N; SymbolName_4: P-N; SymbolName_5: P-N; SymbolName_6: P-N; SymbolName_7: P-N; SymbolName_8: P-N; SymbolName_9: P-N; SymbolName_10: P-N; SymbolName_11: P-N; SymbolName_12: P-N; SymbolName_13: P-N; SymbolName_14: P-N; SymbolName_15: P-N; SymbolName_16: P-N; SymbolName_17: P-N; SymbolName_18: P-N; SymbolName_19: P-N; SymbolName_20: P-N; SymbolName_21: P-N; SymbolName_22: P-N; LibraryName: con-molex-mini-fit; Package: 39-30-?22?
footprint 39-30-?22?
part A pins: 1 P
part B pins: 2 P
part C pins: 3 P
part D pins: 4 P
part E pins: 5 P
part F pins: 6 P
part G pins: 7 P
part H pins: 8 P
part I pins: 9 P
part J pins: 10 P
part K pins: 11 P
part L pins: 12 P
part M pins: 13 P
part N pins: 14 P
part O pins: 15 P
part P pins: 16 P
part Q pins: 17 P
part R pins: 18 P
part S pins: 19 P
part T pins: 20 P
part U pins: 21 P
part V pins: 22 P

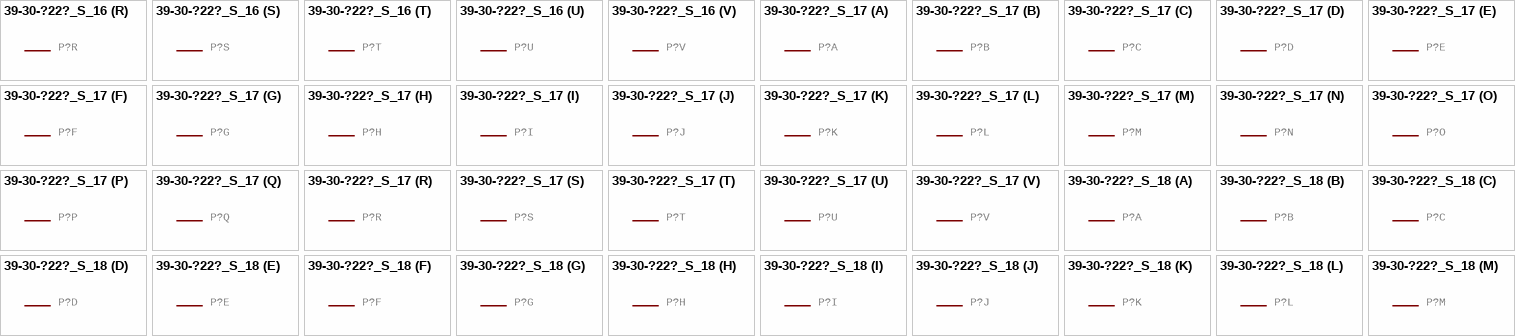
[diagram p48: symbols 39-30-?22?_S_16 to 39-30-?22?_S_18]

## 39-30-?22?_S_16
designator P?, comment HEADER  (value not drawn)
GateName_1: -1; SymbolName_1: P-NV; GateName_2: -2; SymbolName_2: P-N; GateName_3: -3; GateName_4: -4; GateName_5: -5; GateName_6: -6; GateName_7: -7; GateName_8: -8; GateName_9: -9; GateName_10: -10; GateName_11: -11; GateName_12: -12; GateName_13: -13; GateName_14: -14; GateName_15: -15; GateName_16: -16; GateName_17: -17; GateName_18: -18; GateName_19: -19; GateName_20: -20; GateName_21: -21; GateName_22: -22; DeviceSetName: 39-30-?22?_S; SymbolName_3: P-N; SymbolName_4: P-N; SymbolName_5: P-N; SymbolName_6: P-N; SymbolName_7: P-N; SymbolName_8: P-N; SymbolName_9: P-N; SymbolName_10: P-N; SymbolName_11: P-N; SymbolName_12: P-N; SymbolName_13: P-N; SymbolName_14: P-N; SymbolName_15: P-N; SymbolName_16: P-N; SymbolName_17: P-N; SymbolName_18: P-N; SymbolName_19: P-N; SymbolName_20: P-N; SymbolName_21: P-N; SymbolName_22: P-N; LibraryName: con-molex-mini-fit; Package: 39-30-?22?
footprint 39-30-?22?
part A pins: 1 P
part B pins: 2 P
part C pins: 3 P
part D pins: 4 P
part E pins: 5 P
part F pins: 6 P
part G pins: 7 P
part H pins: 8 P
part I pins: 9 P
part J pins: 10 P
part K pins: 11 P
part L pins: 12 P
part M pins: 13 P
part N pins: 14 P
part O pins: 15 P
part P pins: 16 P
part Q pins: 17 P
part R pins: 18 P
part S pins: 19 P
part T pins: 20 P
part U pins: 21 P
part V pins: 22 P

## 39-30-?22?_S_17
designator P?, comment HEADER  (value not drawn)
GateName_1: -1; SymbolName_1: P-NV; GateName_2: -2; SymbolName_2: P-N; GateName_3: -3; GateName_4: -4; GateName_5: -5; GateName_6: -6; GateName_7: -7; GateName_8: -8; GateName_9: -9; GateName_10: -10; GateName_11: -11; GateName_12: -12; GateName_13: -13; GateName_14: -14; GateName_15: -15; GateName_16: -16; GateName_17: -17; GateName_18: -18; GateName_19: -19; GateName_20: -20; GateName_21: -21; GateName_22: -22; DeviceSetName: 39-30-?22?_S; SymbolName_3: P-N; SymbolName_4: P-N; SymbolName_5: P-N; SymbolName_6: P-N; SymbolName_7: P-N; SymbolName_8: P-N; SymbolName_9: P-N; SymbolName_10: P-N; SymbolName_11: P-N; SymbolName_12: P-N; SymbolName_13: P-N; SymbolName_14: P-N; SymbolName_15: P-N; SymbolName_16: P-N; SymbolName_17: P-N; SymbolName_18: P-N; SymbolName_19: P-N; SymbolName_20: P-N; SymbolName_21: P-N; SymbolName_22: P-N; LibraryName: con-molex-mini-fit; Package: 39-30-?22?
footprint 39-30-?22?
part A pins: 1 P
part B pins: 2 P
part C pins: 3 P
part D pins: 4 P
part E pins: 5 P
part F pins: 6 P
part G pins: 7 P
part H pins: 8 P
part I pins: 9 P
part J pins: 10 P
part K pins: 11 P
part L pins: 12 P
part M pins: 13 P
part N pins: 14 P
part O pins: 15 P
part P pins: 16 P
part Q pins: 17 P
part R pins: 18 P
part S pins: 19 P
part T pins: 20 P
part U pins: 21 P
part V pins: 22 P

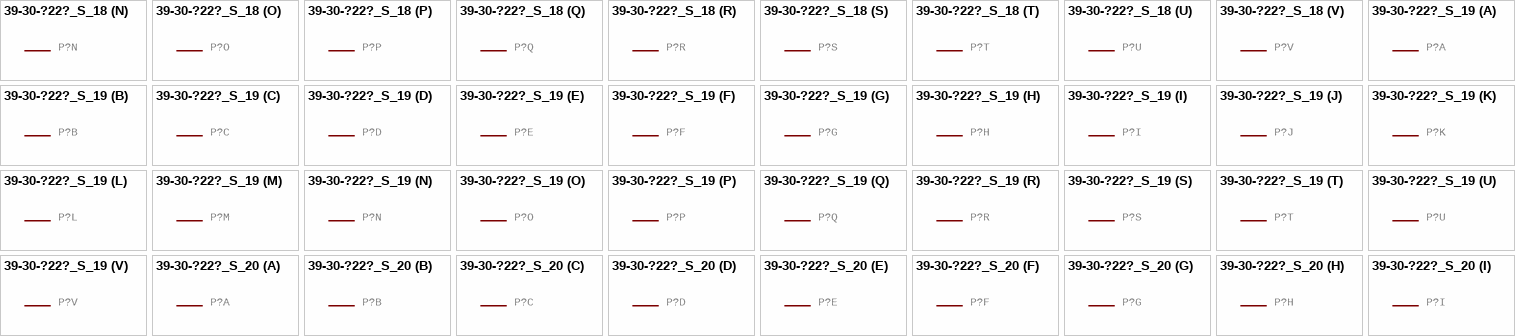
[diagram p49: symbols 39-30-?22?_S_18 to 39-30-?22?_S_20]

## 39-30-?22?_S_18
designator P?, comment HEADER  (value not drawn)
GateName_1: -1; SymbolName_1: P-NV; GateName_2: -2; SymbolName_2: P-N; GateName_3: -3; GateName_4: -4; GateName_5: -5; GateName_6: -6; GateName_7: -7; GateName_8: -8; GateName_9: -9; GateName_10: -10; GateName_11: -11; GateName_12: -12; GateName_13: -13; GateName_14: -14; GateName_15: -15; GateName_16: -16; GateName_17: -17; GateName_18: -18; GateName_19: -19; GateName_20: -20; GateName_21: -21; GateName_22: -22; DeviceSetName: 39-30-?22?_S; SymbolName_3: P-N; SymbolName_4: P-N; SymbolName_5: P-N; SymbolName_6: P-N; SymbolName_7: P-N; SymbolName_8: P-N; SymbolName_9: P-N; SymbolName_10: P-N; SymbolName_11: P-N; SymbolName_12: P-N; SymbolName_13: P-N; SymbolName_14: P-N; SymbolName_15: P-N; SymbolName_16: P-N; SymbolName_17: P-N; SymbolName_18: P-N; SymbolName_19: P-N; SymbolName_20: P-N; SymbolName_21: P-N; SymbolName_22: P-N; LibraryName: con-molex-mini-fit; Package: 39-30-?22?
footprint 39-30-?22?
part A pins: 1 P
part B pins: 2 P
part C pins: 3 P
part D pins: 4 P
part E pins: 5 P
part F pins: 6 P
part G pins: 7 P
part H pins: 8 P
part I pins: 9 P
part J pins: 10 P
part K pins: 11 P
part L pins: 12 P
part M pins: 13 P
part N pins: 14 P
part O pins: 15 P
part P pins: 16 P
part Q pins: 17 P
part R pins: 18 P
part S pins: 19 P
part T pins: 20 P
part U pins: 21 P
part V pins: 22 P

## 39-30-?22?_S_19
designator P?, comment HEADER  (value not drawn)
GateName_1: -1; SymbolName_1: P-NV; GateName_2: -2; SymbolName_2: P-N; GateName_3: -3; GateName_4: -4; GateName_5: -5; GateName_6: -6; GateName_7: -7; GateName_8: -8; GateName_9: -9; GateName_10: -10; GateName_11: -11; GateName_12: -12; GateName_13: -13; GateName_14: -14; GateName_15: -15; GateName_16: -16; GateName_17: -17; GateName_18: -18; GateName_19: -19; GateName_20: -20; GateName_21: -21; GateName_22: -22; DeviceSetName: 39-30-?22?_S; SymbolName_3: P-N; SymbolName_4: P-N; SymbolName_5: P-N; SymbolName_6: P-N; SymbolName_7: P-N; SymbolName_8: P-N; SymbolName_9: P-N; SymbolName_10: P-N; SymbolName_11: P-N; SymbolName_12: P-N; SymbolName_13: P-N; SymbolName_14: P-N; SymbolName_15: P-N; SymbolName_16: P-N; SymbolName_17: P-N; SymbolName_18: P-N; SymbolName_19: P-N; SymbolName_20: P-N; SymbolName_21: P-N; SymbolName_22: P-N; LibraryName: con-molex-mini-fit; Package: 39-30-?22?
footprint 39-30-?22?
part A pins: 1 P
part B pins: 2 P
part C pins: 3 P
part D pins: 4 P
part E pins: 5 P
part F pins: 6 P
part G pins: 7 P
part H pins: 8 P
part I pins: 9 P
part J pins: 10 P
part K pins: 11 P
part L pins: 12 P
part M pins: 13 P
part N pins: 14 P
part O pins: 15 P
part P pins: 16 P
part Q pins: 17 P
part R pins: 18 P
part S pins: 19 P
part T pins: 20 P
part U pins: 21 P
part V pins: 22 P

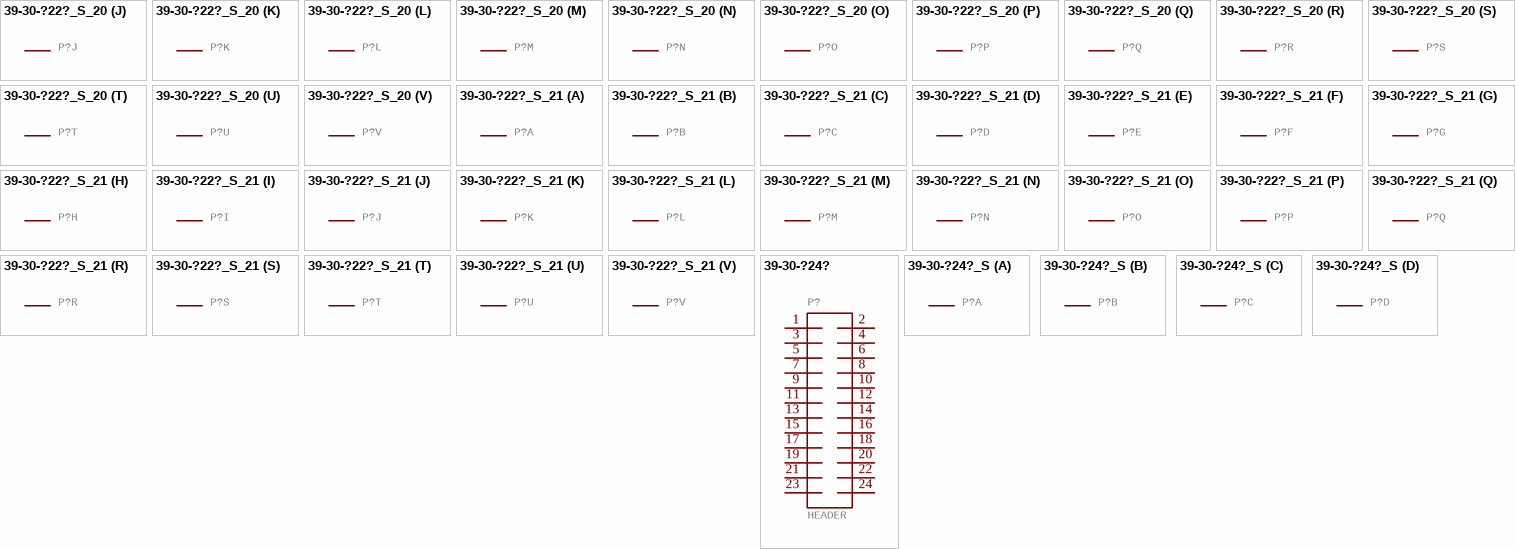
[diagram p50: symbols 39-30-?22?_S_20 to 39-30-?24?_S]

## 39-30-?22?_S_20
designator P?, comment HEADER  (value not drawn)
GateName_1: -1; SymbolName_1: P-NV; GateName_2: -2; SymbolName_2: P-N; GateName_3: -3; GateName_4: -4; GateName_5: -5; GateName_6: -6; GateName_7: -7; GateName_8: -8; GateName_9: -9; GateName_10: -10; GateName_11: -11; GateName_12: -12; GateName_13: -13; GateName_14: -14; GateName_15: -15; GateName_16: -16; GateName_17: -17; GateName_18: -18; GateName_19: -19; GateName_20: -20; GateName_21: -21; GateName_22: -22; DeviceSetName: 39-30-?22?_S; SymbolName_3: P-N; SymbolName_4: P-N; SymbolName_5: P-N; SymbolName_6: P-N; SymbolName_7: P-N; SymbolName_8: P-N; SymbolName_9: P-N; SymbolName_10: P-N; SymbolName_11: P-N; SymbolName_12: P-N; SymbolName_13: P-N; SymbolName_14: P-N; SymbolName_15: P-N; SymbolName_16: P-N; SymbolName_17: P-N; SymbolName_18: P-N; SymbolName_19: P-N; SymbolName_20: P-N; SymbolName_21: P-N; SymbolName_22: P-N; LibraryName: con-molex-mini-fit; Package: 39-30-?22?
footprint 39-30-?22?
part A pins: 1 P
part B pins: 2 P
part C pins: 3 P
part D pins: 4 P
part E pins: 5 P
part F pins: 6 P
part G pins: 7 P
part H pins: 8 P
part I pins: 9 P
part J pins: 10 P
part K pins: 11 P
part L pins: 12 P
part M pins: 13 P
part N pins: 14 P
part O pins: 15 P
part P pins: 16 P
part Q pins: 17 P
part R pins: 18 P
part S pins: 19 P
part T pins: 20 P
part U pins: 21 P
part V pins: 22 P

## 39-30-?22?_S_21
designator P?, comment HEADER  (value not drawn)
GateName_1: -1; SymbolName_1: P-NV; GateName_2: -2; SymbolName_2: P-N; GateName_3: -3; GateName_4: -4; GateName_5: -5; GateName_6: -6; GateName_7: -7; GateName_8: -8; GateName_9: -9; GateName_10: -10; GateName_11: -11; GateName_12: -12; GateName_13: -13; GateName_14: -14; GateName_15: -15; GateName_16: -16; GateName_17: -17; GateName_18: -18; GateName_19: -19; GateName_20: -20; GateName_21: -21; GateName_22: -22; DeviceSetName: 39-30-?22?_S; SymbolName_3: P-N; SymbolName_4: P-N; SymbolName_5: P-N; SymbolName_6: P-N; SymbolName_7: P-N; SymbolName_8: P-N; SymbolName_9: P-N; SymbolName_10: P-N; SymbolName_11: P-N; SymbolName_12: P-N; SymbolName_13: P-N; SymbolName_14: P-N; SymbolName_15: P-N; SymbolName_16: P-N; SymbolName_17: P-N; SymbolName_18: P-N; SymbolName_19: P-N; SymbolName_20: P-N; SymbolName_21: P-N; SymbolName_22: P-N; LibraryName: con-molex-mini-fit; Package: 39-30-?22?
footprint 39-30-?22?
part A pins: 1 P
part B pins: 2 P
part C pins: 3 P
part D pins: 4 P
part E pins: 5 P
part F pins: 6 P
part G pins: 7 P
part H pins: 8 P
part I pins: 9 P
part J pins: 10 P
part K pins: 11 P
part L pins: 12 P
part M pins: 13 P
part N pins: 14 P
part O pins: 15 P
part P pins: 16 P
part Q pins: 17 P
part R pins: 18 P
part S pins: 19 P
part T pins: 20 P
part U pins: 21 P
part V pins: 22 P

## 39-30-?24?
designator P?, comment HEADER
GateName_1: G$1; SymbolName_1: MA12-2; DeviceSetName: 39-30-?24?; LibraryName: con-molex-mini-fit; Package: 39-30-?24?
footprint 39-30-?24?
pins: 1, 2, 3, 4, 5, 6, 7, 8, 9, 10, 11, 12, 13, 14, 15, 16, 17, 18, 19, 20, 21, 22, 23, 24

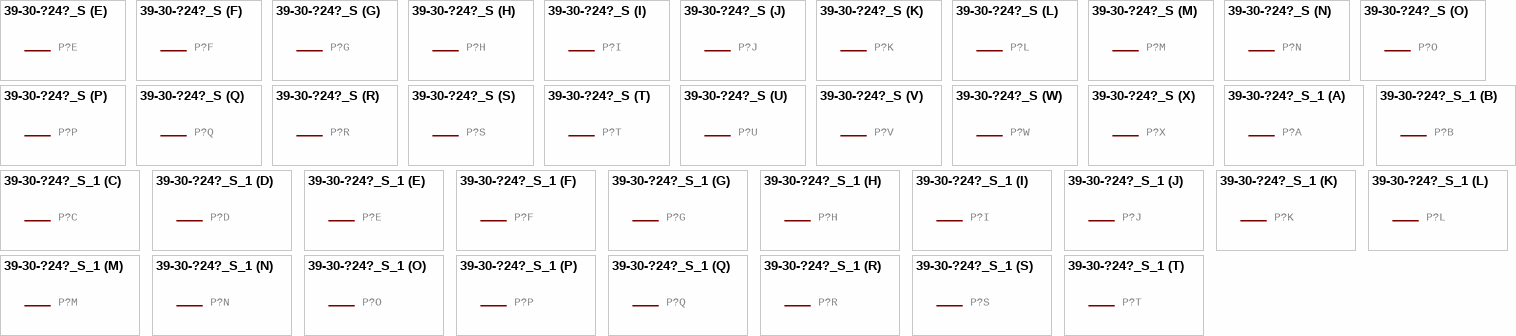
[diagram p51: symbols 39-30-?24?_S to 39-30-?24?_S_1]

## 39-30-?24?_S
designator P?, comment HEADER  (value not drawn)
GateName_1: -1; SymbolName_1: P-NV; GateName_2: -2; SymbolName_2: P-N; GateName_3: -3; GateName_4: -4; GateName_5: -5; GateName_6: -6; GateName_7: -7; GateName_8: -8; GateName_9: -9; GateName_10: -10; GateName_11: -11; GateName_12: -12; GateName_13: -13; GateName_14: -14; GateName_15: -15; GateName_16: -16; GateName_17: -17; GateName_18: -18; GateName_19: -19; GateName_20: -20; GateName_21: -21; GateName_22: -22; GateName_23: -23; GateName_24: -24; DeviceSetName: 39-30-?24?_S; SymbolName_3: P-N; SymbolName_4: P-N; SymbolName_5: P-N; SymbolName_6: P-N; SymbolName_7: P-N; SymbolName_8: P-N; SymbolName_9: P-N; SymbolName_10: P-N; SymbolName_11: P-N; SymbolName_12: P-N; SymbolName_13: P-N; SymbolName_14: P-N; SymbolName_15: P-N; SymbolName_16: P-N; SymbolName_17: P-N; SymbolName_18: P-N; SymbolName_19: P-N; SymbolName_20: P-N; SymbolName_21: P-N; SymbolName_22: P-N; SymbolName_23: P-N; SymbolName_24: P-N; LibraryName: con-molex-mini-fit; Package: 39-30-?24?
footprint 39-30-?24?
part A pins: 1 P
part B pins: 2 P
part C pins: 3 P
part D pins: 4 P
part E pins: 5 P
part F pins: 6 P
part G pins: 7 P
part H pins: 8 P
part I pins: 9 P
part J pins: 10 P
part K pins: 11 P
part L pins: 12 P
part M pins: 13 P
part N pins: 14 P
part O pins: 15 P
part P pins: 16 P
part Q pins: 17 P
part R pins: 18 P
part S pins: 19 P
part T pins: 20 P
part U pins: 21 P
part V pins: 22 P
part W pins: 23 P
part X pins: 24 P

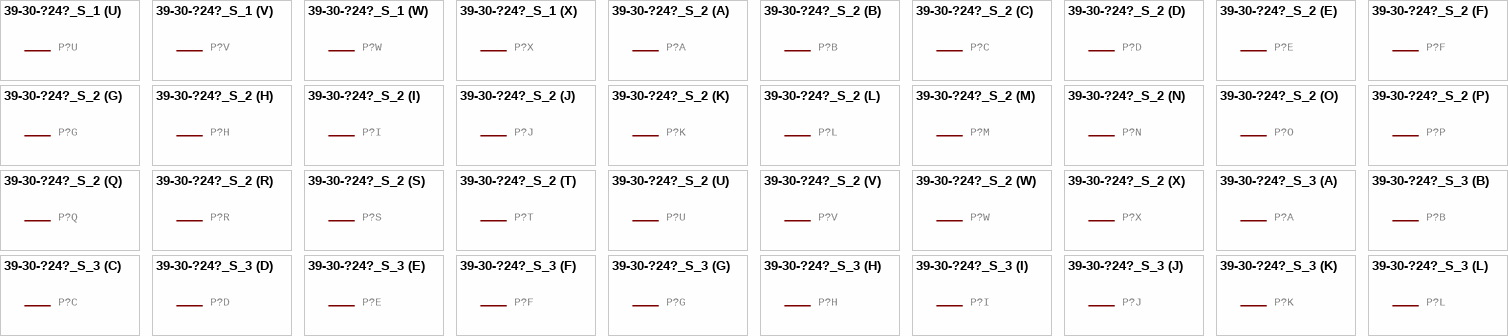
[diagram p52: symbols 39-30-?24?_S_1 to 39-30-?24?_S_3]

## 39-30-?24?_S_1
designator P?, comment HEADER  (value not drawn)
GateName_1: -1; SymbolName_1: P-NV; GateName_2: -2; SymbolName_2: P-N; GateName_3: -3; GateName_4: -4; GateName_5: -5; GateName_6: -6; GateName_7: -7; GateName_8: -8; GateName_9: -9; GateName_10: -10; GateName_11: -11; GateName_12: -12; GateName_13: -13; GateName_14: -14; GateName_15: -15; GateName_16: -16; GateName_17: -17; GateName_18: -18; GateName_19: -19; GateName_20: -20; GateName_21: -21; GateName_22: -22; GateName_23: -23; GateName_24: -24; DeviceSetName: 39-30-?24?_S; SymbolName_3: P-N; SymbolName_4: P-N; SymbolName_5: P-N; SymbolName_6: P-N; SymbolName_7: P-N; SymbolName_8: P-N; SymbolName_9: P-N; SymbolName_10: P-N; SymbolName_11: P-N; SymbolName_12: P-N; SymbolName_13: P-N; SymbolName_14: P-N; SymbolName_15: P-N; SymbolName_16: P-N; SymbolName_17: P-N; SymbolName_18: P-N; SymbolName_19: P-N; SymbolName_20: P-N; SymbolName_21: P-N; SymbolName_22: P-N; SymbolName_23: P-N; SymbolName_24: P-N; LibraryName: con-molex-mini-fit; Package: 39-30-?24?
footprint 39-30-?24?
part A pins: 1 P
part B pins: 2 P
part C pins: 3 P
part D pins: 4 P
part E pins: 5 P
part F pins: 6 P
part G pins: 7 P
part H pins: 8 P
part I pins: 9 P
part J pins: 10 P
part K pins: 11 P
part L pins: 12 P
part M pins: 13 P
part N pins: 14 P
part O pins: 15 P
part P pins: 16 P
part Q pins: 17 P
part R pins: 18 P
part S pins: 19 P
part T pins: 20 P
part U pins: 21 P
part V pins: 22 P
part W pins: 23 P
part X pins: 24 P

## 39-30-?24?_S_2
designator P?, comment HEADER  (value not drawn)
GateName_1: -1; SymbolName_1: P-NV; GateName_2: -2; SymbolName_2: P-N; GateName_3: -3; GateName_4: -4; GateName_5: -5; GateName_6: -6; GateName_7: -7; GateName_8: -8; GateName_9: -9; GateName_10: -10; GateName_11: -11; GateName_12: -12; GateName_13: -13; GateName_14: -14; GateName_15: -15; GateName_16: -16; GateName_17: -17; GateName_18: -18; GateName_19: -19; GateName_20: -20; GateName_21: -21; GateName_22: -22; GateName_23: -23; GateName_24: -24; DeviceSetName: 39-30-?24?_S; SymbolName_3: P-N; SymbolName_4: P-N; SymbolName_5: P-N; SymbolName_6: P-N; SymbolName_7: P-N; SymbolName_8: P-N; SymbolName_9: P-N; SymbolName_10: P-N; SymbolName_11: P-N; SymbolName_12: P-N; SymbolName_13: P-N; SymbolName_14: P-N; SymbolName_15: P-N; SymbolName_16: P-N; SymbolName_17: P-N; SymbolName_18: P-N; SymbolName_19: P-N; SymbolName_20: P-N; SymbolName_21: P-N; SymbolName_22: P-N; SymbolName_23: P-N; SymbolName_24: P-N; LibraryName: con-molex-mini-fit; Package: 39-30-?24?
footprint 39-30-?24?
part A pins: 1 P
part B pins: 2 P
part C pins: 3 P
part D pins: 4 P
part E pins: 5 P
part F pins: 6 P
part G pins: 7 P
part H pins: 8 P
part I pins: 9 P
part J pins: 10 P
part K pins: 11 P
part L pins: 12 P
part M pins: 13 P
part N pins: 14 P
part O pins: 15 P
part P pins: 16 P
part Q pins: 17 P
part R pins: 18 P
part S pins: 19 P
part T pins: 20 P
part U pins: 21 P
part V pins: 22 P
part W pins: 23 P
part X pins: 24 P

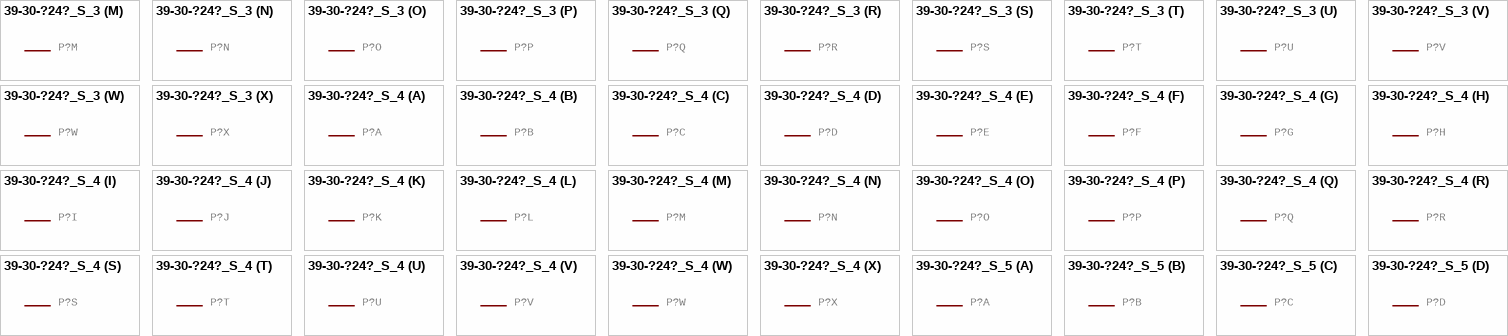
[diagram p53: symbols 39-30-?24?_S_3 to 39-30-?24?_S_5]

## 39-30-?24?_S_3
designator P?, comment HEADER  (value not drawn)
GateName_1: -1; SymbolName_1: P-NV; GateName_2: -2; SymbolName_2: P-N; GateName_3: -3; GateName_4: -4; GateName_5: -5; GateName_6: -6; GateName_7: -7; GateName_8: -8; GateName_9: -9; GateName_10: -10; GateName_11: -11; GateName_12: -12; GateName_13: -13; GateName_14: -14; GateName_15: -15; GateName_16: -16; GateName_17: -17; GateName_18: -18; GateName_19: -19; GateName_20: -20; GateName_21: -21; GateName_22: -22; GateName_23: -23; GateName_24: -24; DeviceSetName: 39-30-?24?_S; SymbolName_3: P-N; SymbolName_4: P-N; SymbolName_5: P-N; SymbolName_6: P-N; SymbolName_7: P-N; SymbolName_8: P-N; SymbolName_9: P-N; SymbolName_10: P-N; SymbolName_11: P-N; SymbolName_12: P-N; SymbolName_13: P-N; SymbolName_14: P-N; SymbolName_15: P-N; SymbolName_16: P-N; SymbolName_17: P-N; SymbolName_18: P-N; SymbolName_19: P-N; SymbolName_20: P-N; SymbolName_21: P-N; SymbolName_22: P-N; SymbolName_23: P-N; SymbolName_24: P-N; LibraryName: con-molex-mini-fit; Package: 39-30-?24?
footprint 39-30-?24?
part A pins: 1 P
part B pins: 2 P
part C pins: 3 P
part D pins: 4 P
part E pins: 5 P
part F pins: 6 P
part G pins: 7 P
part H pins: 8 P
part I pins: 9 P
part J pins: 10 P
part K pins: 11 P
part L pins: 12 P
part M pins: 13 P
part N pins: 14 P
part O pins: 15 P
part P pins: 16 P
part Q pins: 17 P
part R pins: 18 P
part S pins: 19 P
part T pins: 20 P
part U pins: 21 P
part V pins: 22 P
part W pins: 23 P
part X pins: 24 P

## 39-30-?24?_S_4
designator P?, comment HEADER  (value not drawn)
GateName_1: -1; SymbolName_1: P-NV; GateName_2: -2; SymbolName_2: P-N; GateName_3: -3; GateName_4: -4; GateName_5: -5; GateName_6: -6; GateName_7: -7; GateName_8: -8; GateName_9: -9; GateName_10: -10; GateName_11: -11; GateName_12: -12; GateName_13: -13; GateName_14: -14; GateName_15: -15; GateName_16: -16; GateName_17: -17; GateName_18: -18; GateName_19: -19; GateName_20: -20; GateName_21: -21; GateName_22: -22; GateName_23: -23; GateName_24: -24; DeviceSetName: 39-30-?24?_S; SymbolName_3: P-N; SymbolName_4: P-N; SymbolName_5: P-N; SymbolName_6: P-N; SymbolName_7: P-N; SymbolName_8: P-N; SymbolName_9: P-N; SymbolName_10: P-N; SymbolName_11: P-N; SymbolName_12: P-N; SymbolName_13: P-N; SymbolName_14: P-N; SymbolName_15: P-N; SymbolName_16: P-N; SymbolName_17: P-N; SymbolName_18: P-N; SymbolName_19: P-N; SymbolName_20: P-N; SymbolName_21: P-N; SymbolName_22: P-N; SymbolName_23: P-N; SymbolName_24: P-N; LibraryName: con-molex-mini-fit; Package: 39-30-?24?
footprint 39-30-?24?
part A pins: 1 P
part B pins: 2 P
part C pins: 3 P
part D pins: 4 P
part E pins: 5 P
part F pins: 6 P
part G pins: 7 P
part H pins: 8 P
part I pins: 9 P
part J pins: 10 P
part K pins: 11 P
part L pins: 12 P
part M pins: 13 P
part N pins: 14 P
part O pins: 15 P
part P pins: 16 P
part Q pins: 17 P
part R pins: 18 P
part S pins: 19 P
part T pins: 20 P
part U pins: 21 P
part V pins: 22 P
part W pins: 23 P
part X pins: 24 P

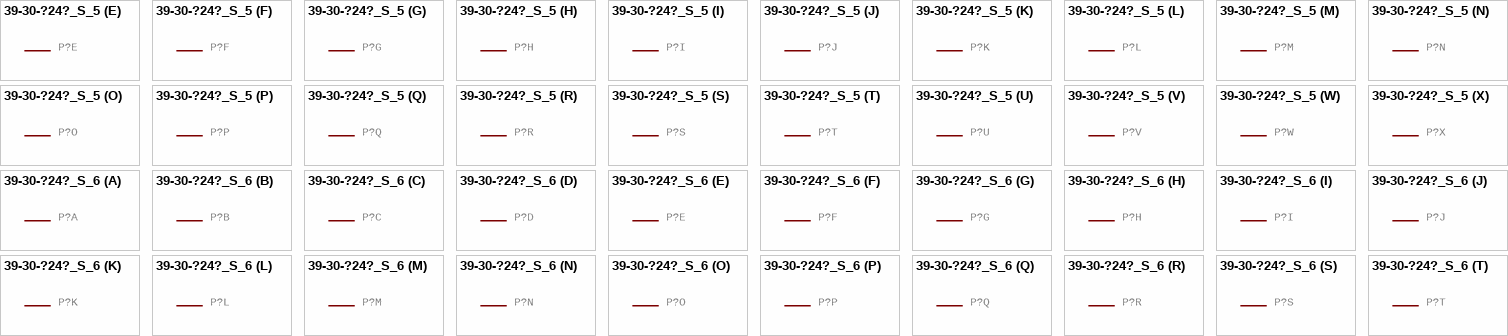
[diagram p54: symbols 39-30-?24?_S_5 to 39-30-?24?_S_6]

## 39-30-?24?_S_5
designator P?, comment HEADER  (value not drawn)
GateName_1: -1; SymbolName_1: P-NV; GateName_2: -2; SymbolName_2: P-N; GateName_3: -3; GateName_4: -4; GateName_5: -5; GateName_6: -6; GateName_7: -7; GateName_8: -8; GateName_9: -9; GateName_10: -10; GateName_11: -11; GateName_12: -12; GateName_13: -13; GateName_14: -14; GateName_15: -15; GateName_16: -16; GateName_17: -17; GateName_18: -18; GateName_19: -19; GateName_20: -20; GateName_21: -21; GateName_22: -22; GateName_23: -23; GateName_24: -24; DeviceSetName: 39-30-?24?_S; SymbolName_3: P-N; SymbolName_4: P-N; SymbolName_5: P-N; SymbolName_6: P-N; SymbolName_7: P-N; SymbolName_8: P-N; SymbolName_9: P-N; SymbolName_10: P-N; SymbolName_11: P-N; SymbolName_12: P-N; SymbolName_13: P-N; SymbolName_14: P-N; SymbolName_15: P-N; SymbolName_16: P-N; SymbolName_17: P-N; SymbolName_18: P-N; SymbolName_19: P-N; SymbolName_20: P-N; SymbolName_21: P-N; SymbolName_22: P-N; SymbolName_23: P-N; SymbolName_24: P-N; LibraryName: con-molex-mini-fit; Package: 39-30-?24?
footprint 39-30-?24?
part A pins: 1 P
part B pins: 2 P
part C pins: 3 P
part D pins: 4 P
part E pins: 5 P
part F pins: 6 P
part G pins: 7 P
part H pins: 8 P
part I pins: 9 P
part J pins: 10 P
part K pins: 11 P
part L pins: 12 P
part M pins: 13 P
part N pins: 14 P
part O pins: 15 P
part P pins: 16 P
part Q pins: 17 P
part R pins: 18 P
part S pins: 19 P
part T pins: 20 P
part U pins: 21 P
part V pins: 22 P
part W pins: 23 P
part X pins: 24 P

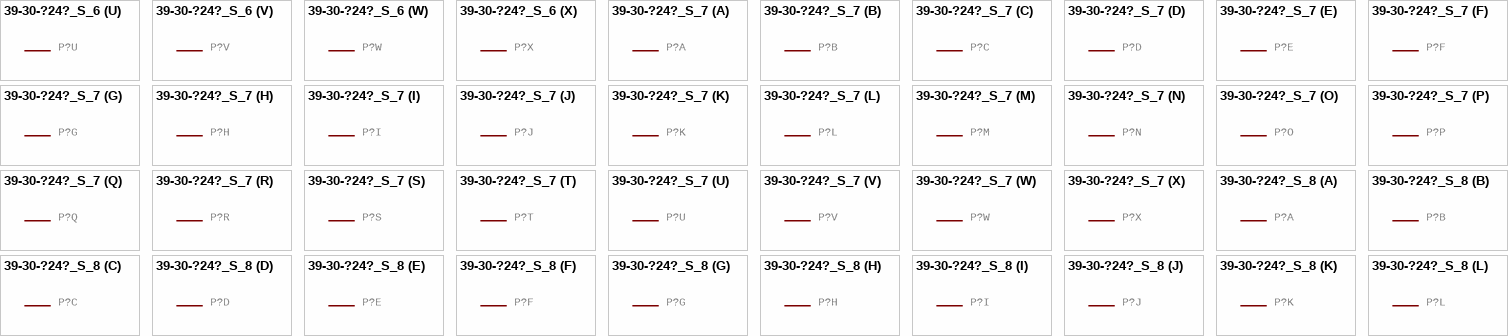
[diagram p55: symbols 39-30-?24?_S_6 to 39-30-?24?_S_8]

## 39-30-?24?_S_6
designator P?, comment HEADER  (value not drawn)
GateName_1: -1; SymbolName_1: P-NV; GateName_2: -2; SymbolName_2: P-N; GateName_3: -3; GateName_4: -4; GateName_5: -5; GateName_6: -6; GateName_7: -7; GateName_8: -8; GateName_9: -9; GateName_10: -10; GateName_11: -11; GateName_12: -12; GateName_13: -13; GateName_14: -14; GateName_15: -15; GateName_16: -16; GateName_17: -17; GateName_18: -18; GateName_19: -19; GateName_20: -20; GateName_21: -21; GateName_22: -22; GateName_23: -23; GateName_24: -24; DeviceSetName: 39-30-?24?_S; SymbolName_3: P-N; SymbolName_4: P-N; SymbolName_5: P-N; SymbolName_6: P-N; SymbolName_7: P-N; SymbolName_8: P-N; SymbolName_9: P-N; SymbolName_10: P-N; SymbolName_11: P-N; SymbolName_12: P-N; SymbolName_13: P-N; SymbolName_14: P-N; SymbolName_15: P-N; SymbolName_16: P-N; SymbolName_17: P-N; SymbolName_18: P-N; SymbolName_19: P-N; SymbolName_20: P-N; SymbolName_21: P-N; SymbolName_22: P-N; SymbolName_23: P-N; SymbolName_24: P-N; LibraryName: con-molex-mini-fit; Package: 39-30-?24?
footprint 39-30-?24?
part A pins: 1 P
part B pins: 2 P
part C pins: 3 P
part D pins: 4 P
part E pins: 5 P
part F pins: 6 P
part G pins: 7 P
part H pins: 8 P
part I pins: 9 P
part J pins: 10 P
part K pins: 11 P
part L pins: 12 P
part M pins: 13 P
part N pins: 14 P
part O pins: 15 P
part P pins: 16 P
part Q pins: 17 P
part R pins: 18 P
part S pins: 19 P
part T pins: 20 P
part U pins: 21 P
part V pins: 22 P
part W pins: 23 P
part X pins: 24 P